# Altium footprint library Footprints.PcbLib: 96 footprints (part 3 of 6)
Each footprint in its own frame and in the unit in brackets; x right, y up, seen from the top. Pads: shape width x height; smd on the part's side, far side on the other; paste and mask are expansions set on the pad; w line width, h text height; cw(c..) or ccw(c..) is an arc to the next point about the centre after c.
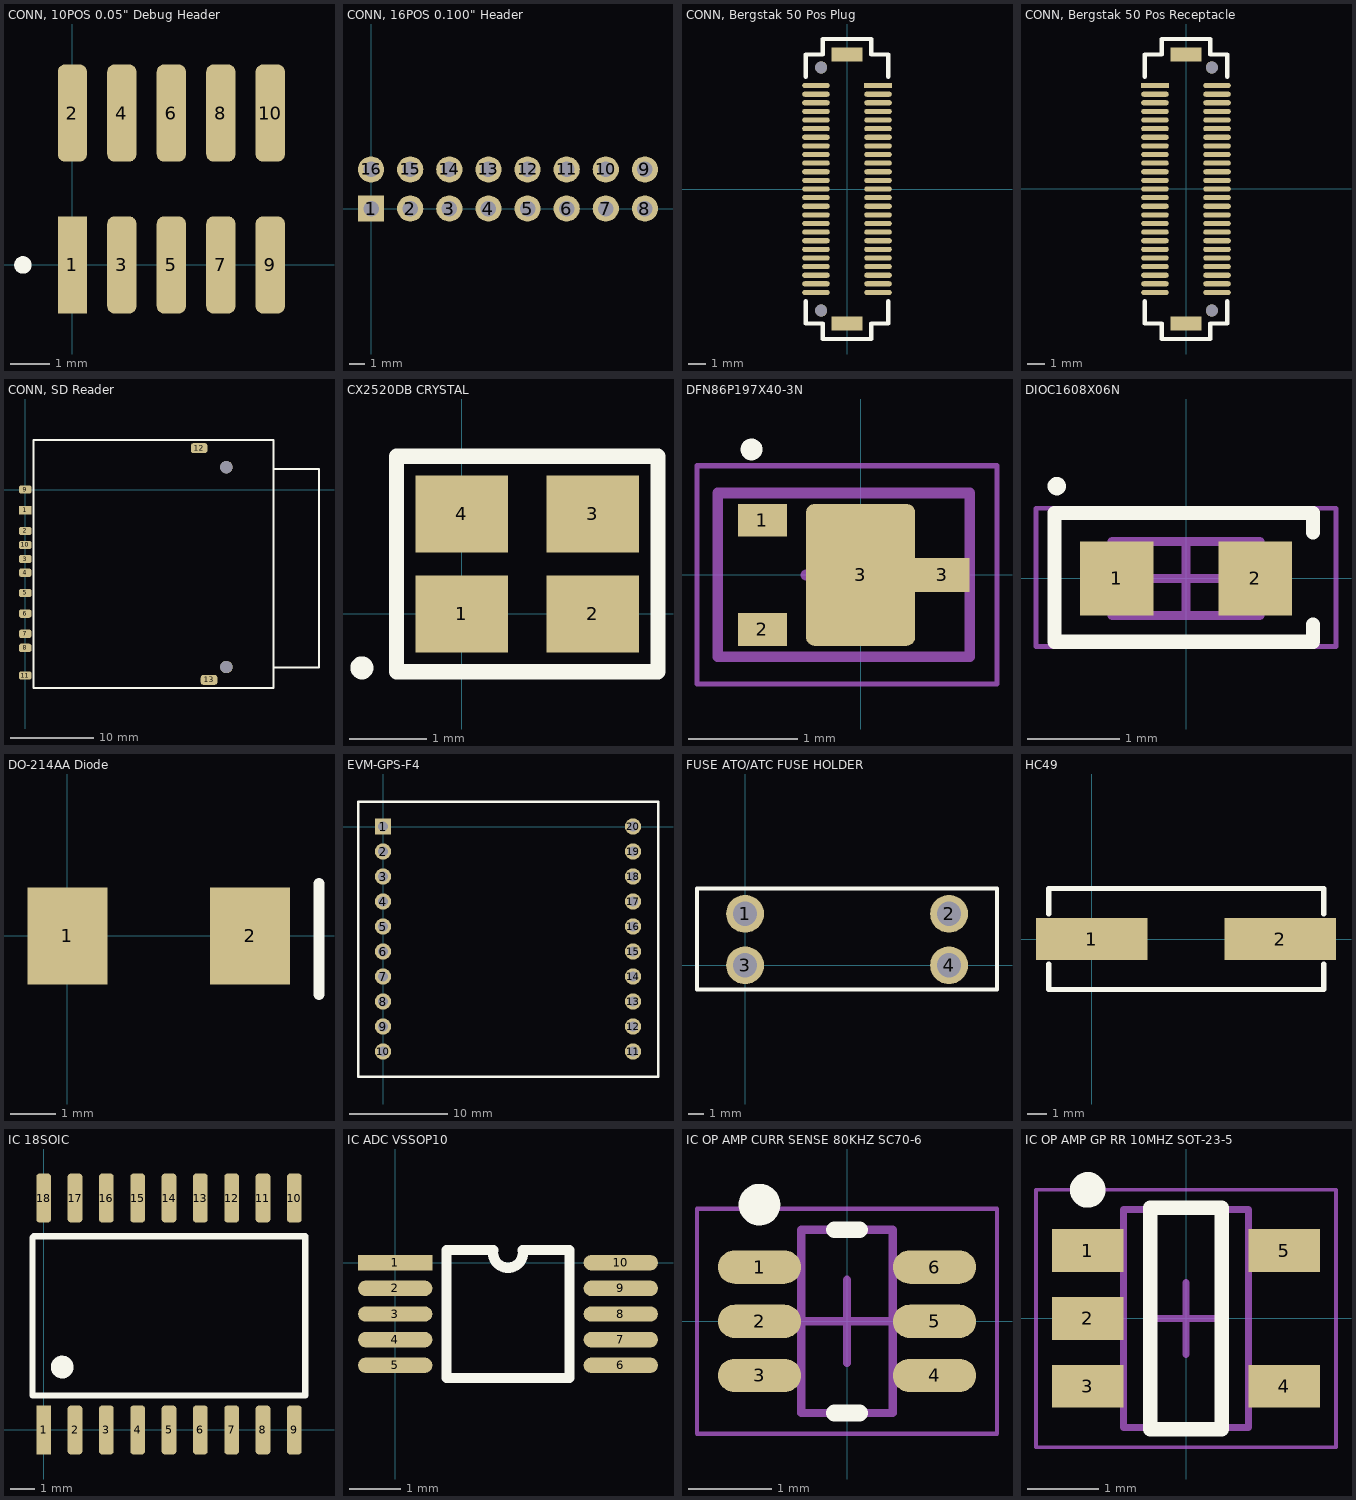
[diagram p2: the footprints below, top view; thin cyan lines are the x and y axes]

## CONN, 10POS 0.05" Debug Header [mm] "Amphenol 10 Positions Header Connector 0.050\" (1.27mm) Surface Mount Gold"
pads (10):
  rect 0.75x2.5 smd: 1(0,0)
  rrect50% 0.75x2.5 smd: 2(0,3.9) 3(1.27,0) 4(1.27,3.9) 5(2.54,0) 6(2.54,3.9) 7(3.81,0) 8(3.81,3.9) 9(5.08,0) 10(5.08,3.9)
Top Overlay:
  circle w0.25: c-1.27,0 r0.1
3D body "20021121-00010XXLFc.stp": height 4.5, standoff 0, extent -0.635,-0.845 5.715,4.655

## CONN, 16POS 0.100" Header [mm]
pads (16):
  rect 1.7x1.7 hole 1: 1(0,0)
  round 1.7 hole 1: 2(2.54,0) 3(5.08,0) 4(7.62,0) 5(10.16,0) 6(12.7,0) 7(15.24,0) 8(17.78,0) 9(17.78,2.54) 10(15.24,2.54) 11(12.7,2.54) 12(10.16,2.54) 13(7.62,2.54) 14(5.08,2.54) 15(2.54,2.54) 16(0,2.54)

## CONN, Bergstak 50 Pos Plug [mm] "Bergstak 50 Position Plug"
pads (54):
  rect 1.6x0.3 smd: 1(1.8,6)
  oval 1.6x0.3 smd: 2(1.8,5.5) 3(1.8,5) 4(1.8,4.5) 5(1.8,4) 6(1.8,3.5) 7(1.8,3) 8(1.8,2.5) 9(1.8,2) 10(1.8,1.5) 11(1.8,1) 12(1.8,0.5) 13(1.8,0) 14(1.8,-0.5) 15(1.8,-1) 16(1.8,-1.5) 17(1.8,-2) 18(1.8,-2.5) 19(1.8,-3) 20(1.8,-3.5) 21(1.8,-4) 22(1.8,-4.5) 23(1.8,-5) 24(1.8,-5.5) 25(1.8,-6) 26(-1.8,-6) 27(-1.8,-5.5) 28(-1.8,-5) 29(-1.8,-4.5) 30(-1.8,-4) 31(-1.8,-3.5) 32(-1.8,-3) 33(-1.8,-2.5) 34(-1.8,-2) 35(-1.8,-1.5) 36(-1.8,-1) 37(-1.8,-0.5) 38(-1.8,0) 39(-1.8,0.5) 40(-1.8,1) 41(-1.8,1.5) 42(-1.8,2) 43(-1.8,2.5) 44(-1.8,3) 45(-1.8,3.5) 46(-1.8,4) 47(-1.8,4.5) 48(-1.8,5) 49(-1.8,5.5) 50(-1.8,6)
  round 0.7 hole 0.7: ""(-1.5,-7.05) ""(-1.5,7.05)
  rect 1.8x0.8 smd: ""(0,-7.8) ""(0,7.8)
Top Overlay:
  lines w0.254: -2.4,-6.5 -2.4,-7.8 -1.4,-7.8 -1.4,-8.7 1.4,-8.7 1.4,-7.8 2.4,-7.8 2.4,-6.5 ; -2.4,6.5 -2.4,7.8 -1.4,7.8 -1.4,8.7 1.4,8.7 1.4,7.8 2.4,7.8 2.4,6.5

## CONN, Bergstak 50 Pos Receptacle [mm] "Bergstak 50 Position Receptacle"
height 2.7
pads (54):
  rect 1.6x0.3 smd: 1(-1.8,6)
  oval 1.6x0.3 smd: 2(-1.8,5.5) 3(-1.8,5) 4(-1.8,4.5) 5(-1.8,4) 6(-1.8,3.5) 7(-1.8,3) 8(-1.8,2.5) 9(-1.8,2) 10(-1.8,1.5) 11(-1.8,1) 12(-1.8,0.5) 13(-1.8,0) 14(-1.8,-0.5) 15(-1.8,-1) 16(-1.8,-1.5) 17(-1.8,-2) 18(-1.8,-2.5) 19(-1.8,-3) 20(-1.8,-3.5) 21(-1.8,-4) 22(-1.8,-4.5) 23(-1.8,-5) 24(-1.8,-5.5) 25(-1.8,-6) 26(1.8,-6) 27(1.8,-5.5) 28(1.8,-5) 29(1.8,-4.5) 30(1.8,-4) 31(1.8,-3.5) 32(1.8,-3) 33(1.8,-2.5) 34(1.8,-2) 35(1.8,-1.5) 36(1.8,-1) 37(1.8,-0.5) 38(1.8,0) 39(1.8,0.5) 40(1.8,1) 41(1.8,1.5) 42(1.8,2) 43(1.8,2.5) 44(1.8,3) 45(1.8,3.5) 46(1.8,4) 47(1.8,4.5) 48(1.8,5) 49(1.8,5.5) 50(1.8,6)
  rect 1.8x0.8 smd: ""(0,-7.8) ""(0,7.8)
  round 0.7 hole 0.7: ""(1.5,-7.05) ""(1.5,7.05)
Top Overlay:
  lines w0.254: -2.4,-6.5 -2.4,-7.8 -1.4,-7.8 -1.4,-8.7 1.4,-8.7 1.4,-7.8 2.4,-7.8 2.4,-6.5 ; -2.4,6.5 -2.4,7.8 -1.4,7.8 -1.4,8.7 1.4,8.7 1.4,7.8 2.4,7.8 2.4,6.5

## CONN, SD Reader [mm] "101-00313-68-02CT-ND"
pads (15):
  rect 1.5x1 smd: 1(0,-2.5)
  rrect50% 1.5x1 smd: 2(0,-5) 3(0,-8.4) 4(0,-10.05) 5(0,-12.5) 6(0,-15) 7(0,-17.43) 8(0,-19.13) 9(0,0) 10(0,-6.7) 11(0,-22.48)
  rrect50% 2x1.2 smd: 12(21.01,5) 13(22.21,-23)
  round 1.5 hole 1.5: ""(24.31,-21.45) ""(24.31,2.7)
Top Overlay:
  lines w0.254: 1,-23.5 1,6 30,6 30,-24 1,-24 1,-23 ; 30,-21.5 35.5,-21.5 35.5,2.5 30,2.5

## CX2520DB CRYSTAL [mm]
pads (4):
  rect 1.2x1 smd: 1(0,0) 2(1.7,0) 3(1.7,1.3) 4(0,1.3)
Top Overlay:
  circle w0.2: c-1.3,-0.7 r0.05
  lines w0.2: -0.85,-0.75 -0.85,2.05 2.55,2.05 2.55,-0.75 -0.85,-0.75
3D body: height 0.5, standoff 0, extent -0.4,-0.35 2.1,1.65

## DFN86P197X40-3N [mm] "DFN, 3-Leads, Body 1.47x1.97mm, Pitch 0.86mm, IPC Medium Density"
height 0.4
pads (4):
  rect 0.45x0.3 smd: 1(-0.9,0.5) 2(-0.9,-0.5)
  rrect15% 1x1.3 smd: 3(0,0)
  rect 0.5x0.31 smd: 3(0.75,0)
Top Overlay:
  circle w0.1: c-1,1.15 r0.05
Mechanical 13:
  lines w0.1: -1.31,-0.75 -1.31,0.75 1,0.75 1,-0.75 -1.31,-0.75
Mechanical 15:
  lines w0.05: -1.5,-1 -1.5,1 1.25,1 1.25,-1 -1.5,-1
  lines w0.1: -0.5,0 0.5,0 ; 0,-0.5 0,0.5
3D body "DFN86P197X40-3N.step": height 0.4, standoff 0, extent -1.31,-0.75 1,0.75

## DIOC1608X06N [mm] "Chip Diode, 2-Leads, Body 1.60x0.80mm, IPC Medium Density"
height 0.7
pads (2):
  rect 0.8x0.8 smd: 1(-0.75,0) 2(0.75,0)
Top Overlay:
  circle w0.1: c-1.4,1 r0.05
  lines w0.152: 1.375,-0.5 1.375,-0.686 -1.422,-0.686 -1.422,0.711 1.375,0.711 1.375,0.5
Mechanical 13:
  rectangle: 0.585,-0.4 0.8,0.4
  lines w0.1: -0.8,-0.4 -0.8,0.4 0.8,0.4 0.8,-0.4 -0.8,-0.4
Mechanical 15:
  lines w0.05: -1.625,-0.737 -1.625,0.762 1.625,0.762 1.625,-0.737 -1.625,-0.737
  lines w0.1: -0.4,0 0.4,0 ; 0,-0.4 0,0.4
3D body: height 0.8, standoff 0.3, extent -0.508,-0.305 0.508,0.305
3D body: height 0.3, standoff 0, extent -0.8,-0.4 0.8,0.4

## DO-214AA Diode [mil] "Zener Diode 16V 5W SMBJ5353B-TP"
pads (2):
  rect 70x85 smd: 1(0,0) 2(160,0)
Top Overlay:
  lines w10: 220.47,-51.33 220.47,45.67

## EVM-GPS-F4 [mil] "GPS Module"
pads (20):
  rect 65x65 hole 40: 1(0,0)
  round 65 hole 40: 2(0,-100) 3(0,-200) 4(0,-300) 5(0,-400) 6(0,-500) 7(0,-600) 8(0,-700) 9(0,-800) 10(0,-900) 11(1000,-900) 12(1000,-800) 13(1000,-700) 14(1000,-600) 15(1000,-500) 16(1000,-400) 17(1000,-300) 18(1000,-200) 19(1000,-100) 20(1000,0)
Top Overlay:
  lines w10: -100,-1000 -100,100 1100,100 1100,-1000 -100,-1000

## FUSE ATO/ATC FUSE HOLDER [mm]
pads (4):
  round 2.5 hole 1.6: 1(0,3.4) 2(13.47,3.4) 3(0,0) 4(13.47,0)
Top Overlay:
  lines w0.254: -3.18,-1.595 16.64,-1.595 16.64,4.985 ; -3.17,-1.595 -3.17,5.065 16.64,5.065

## HC49 [mm]
pads (2):
  rect 5.6x2.1 smd: 1(0,0) 2(9.5,0)
Top Overlay:
  lines w0.254: -2.159,-1.27 -2.159,-2.54 11.684,-2.54 11.684,-1.27 ; -2.159,1.27 -2.159,2.54 11.684,2.54 11.684,1.27

## IC 18SOIC [mm]
height 2
pads (18):
  rect 0.6x2 smd: 1(0,0)
  rrect50% 0.6x2 smd: 2(1.27,0) 3(2.54,0) 4(3.81,0) 5(5.08,0) 6(6.35,0) 7(7.62,0) 8(8.89,0) 9(10.16,0) 10(10.16,9.4) 11(8.89,9.4) 12(7.62,9.4) 13(6.35,9.4) 14(5.08,9.4) 15(3.81,9.4) 16(2.54,9.4) 17(1.27,9.4) 18(0,9.4)
Top Overlay:
  circle w0.254: c0.75,2.55 r0.1
  circle w0.254: c0.75,2.55 r0.335
  lines w0.254: -0.45,7.8 -0.45,1.4 10.6,1.4 10.6,7.85 -0.4,7.85
3D body "SOIC18 wide.stp": height 2, standoff 0, extent -0.625,-0.382 10.725,9.782

## IC ADC VSSOP10 [mm]
pads (10):
  rect 1.45x0.3 smd: 1(0,0)
  oval 1.45x0.3 smd: 2(0,-0.5) 3(0,-1) 4(0,-1.5) 5(0,-2) 6(4.4,-2) 7(4.4,-1.5) 8(4.4,-1) 9(4.4,-0.5) 10(4.4,0)
Top Overlay:
  lines w0.2: 1.914,0.246 ccw(c2.2,0.191) 2.486,0.246 ; 1.914,0.25 1,0.25 1,-2.25 3.4,-2.25 3.4,0.25 2.486,0.25
3D body "MSOP-10.stp": height 1.15, standoff 0, extent -0.25,-2.5 4.65,0.5

## IC OP AMP CURR SENSE 80KHZ SC70-6 [mm]
height 1.1
pads (6):
  oval 1x0.4 smd: 1(-1.05,0.65) 2(-1.05,0) 3(-1.05,-0.65) 4(1.05,-0.65) 5(1.05,0) 6(1.05,0.65)
Top Overlay:
  circle w0.25: c-1.05,1.4 r0.125
  lines w0.2: -0.15,-1.1 0.15,-1.1 ; -0.15,1.1 0.15,1.1
Mechanical 13:
  lines w0.1: -0.55,-1.1 -0.55,1.1 0.55,1.1 0.55,-1.1 -0.55,-1.1
Mechanical 15:
  lines w0.05: -1.8,-1.35 -1.8,1.35 1.8,1.35 1.8,-1.35 -1.8,-1.35
  lines w0.1: -0.5,0 0.5,0 ; 0,-0.5 0,0.5
3D body "IC OP AMP CURR SENSE 80KHZ SC70-6.step": height 1.1, standoff 0, extent -1.05,-1.1 1.05,1.1

## IC OP AMP GP RR 10MHZ SOT-23-5 [mm] "SOT23, 5-Leads, Body 2.90x2.80mm, Pitch 0.95mm, IPC Medium Density"
height 1.45
pads (5):
  rect 1x0.6 smd: 1(-1.375,0.95) 2(-1.375,0) 3(-1.375,-0.95) 4(1.375,-0.95) 5(1.375,0.95)
Top Overlay:
  circle w0.25: c-1.375,1.8 r0.125
  lines w0.2: -0.5,-1.55 -0.5,1.55 0.5,1.55 0.5,-1.55 -0.5,-1.55
Mechanical 13:
  lines w0.1: -0.875,-1.525 0.875,-1.525 0.875,1.525 -0.875,1.525 -0.875,-1.525
Mechanical 15:
  lines w0.05: -2.1,-1.8 2.1,-1.8 2.1,1.8 -2.1,1.8 -2.1,-1.8
  lines w0.1: -0.5,0 0.5,0 ; 0,-0.5 0,0.5
3D body "IC OP AMP GP RR 10MHZ SOT-23-5.step": height 1.45, standoff 0, extent -1.5,-1.525 1.5,1.525